# EAGLE library part RPI (library we-board)
Raspberry Pi 1 A/B
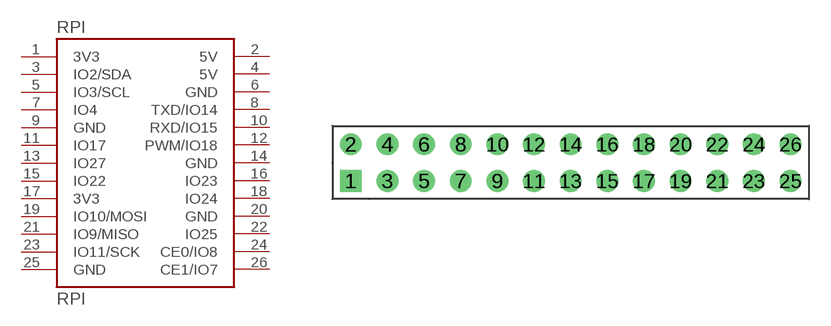
[diagram p0: symbol with the pads of RPI_CON; footprint RPI_CON]

Designator prefix RPI

## RPI-CON  [RPI_CON]
1  3V3  pas
2  5V  pas
3  IO2/SDA  pas
4  5V  pas
5  IO3/SCL  pas
6  GND  pas
7  IO4  pas
8  TXD/IO14  pas
9  GND  pas
10  RXD/IO15  pas
11  IO17  pas
12  PWM/IO18  pas
13  IO27  pas
14  GND  pas
15  IO22  pas
16  IO23  pas
17  3V3  pas
18  IO24  pas
19  IO10/MOSI  pas
20  GND  pas
21  IO9/MISO  pas
22  IO25  pas
23  IO11/SCK  pas
24  CE0/IO8  pas
25  GND  pas
26  CE1/IO7  pas

## Footprint RPI_CON (pad centres in mm)
only connector
drill 1 square: 1 -15.24,-1.27
drill 1: 2 -15.24,1.27; 3 -12.7,-1.27; 4 -12.7,1.27; 5 -10.16,-1.27; 6 -10.16,1.27; 7 -7.62,-1.27; 8 -7.62,1.27; 9 -5.08,-1.27; 10 -5.08,1.27; 11 -2.54,-1.27; 12 -2.54,1.27; 13 0,-1.27; 14 0,1.27; 15 2.54,-1.27; 16 2.54,1.27; 17 5.08,-1.27; 18 5.08,1.27; 19 7.62,-1.27; 20 7.62,1.27; 21 10.16,-1.27; 22 10.16,1.27; 23 12.7,-1.27; 24 12.7,1.27; 25 15.24,-1.27; 26 15.24,1.27